# EAGLE library part LTC3615 (library PowerProducts)
Dual 4MHz, 3A Synchronous Step-Down DC/DC Converter
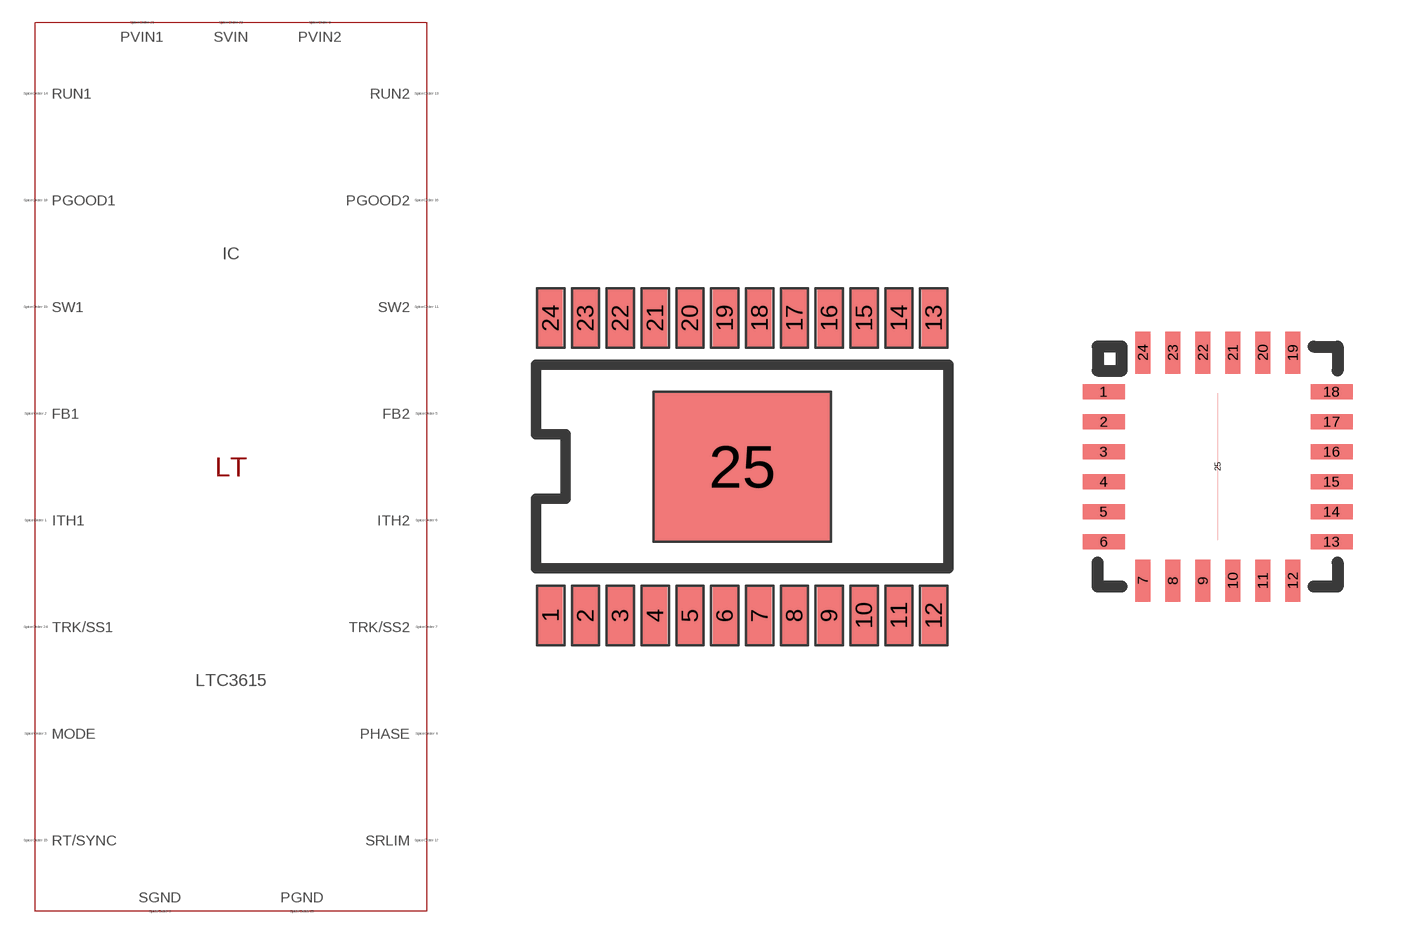
[diagram p266: symbol with the pads of TSSOP24AA(FE); footprints TSSOP24AA(FE), QFN24(UF)]

Designator prefix IC

## LTC3615 (SPICEMODEL: LTC3615.sub; SPICEPREFIX: X; VALUE2: LTC3615)  [TSSOP24AA(FE)]
1  PHASE  pas
2  FB2  pas
3  ITH2  pas
4  TRK/SS2  pas
5  SGND  pas
6  PVIN2  pas
7  PVIN2  pas
8  SW2  pas
9  SW2  pas
10  RUN2  pas
11  RUN1  pas
12  RT/SYNC  pas
13  PGOOD2  pas
14  SRLIM  pas
15  PGOOD1  pas
16  SW1  pas
17  SW1  pas
18  PVIN1  pas
19  PVIN1  pas
20  SVIN  pas
21  TRK/SS1  pas
22  ITH1  pas
23  FB1  pas
24  MODE  pas
25  PGND  pas

## LTC3615UF (SPICEMODEL: LTC3615.sub; SPICEPREFIX: X; VALUE2: LTC3615)  [QFN24(UF)]
1  ITH1  pas
2  FB1  pas
3  MODE  pas
4  PHASE  pas
5  FB2  pas
6  ITH2  pas
7  TRK/SS2  pas
8  SGND  pas
9  PVIN2  pas
10  PVIN2  pas
11  SW2  pas
12  SW2  pas
13  RUN2  pas
14  RUN1  pas
15  RT/SYNC  pas
16  PGOOD2  pas
17  SRLIM  pas
18  PGOOD1  pas
19  SW1  pas
20  SW1  pas
21  PVIN1  pas
22  PVIN1  pas
23  SVIN  pas
24  TRK/SS1  pas
25  PGND  pas

## Footprint TSSOP24AA(FE) (pad centres in mm)
Package generated from: TSSOP24AA(FE).asc (!PADS-POWERPCB-V9.3-BASIC! DESIGN DATABASE ASCII FILE 1.0) with :import-pads-powerpcb-v5.ulp Version 1.0.1 at 04.10.2012 14:11:40
smd 0.675 x 1.575: 1 -5.362,-4.162; 2 -4.388,-4.162; 3 -3.413,-4.162; 4 -2.438,-4.162; 5 -1.462,-4.162; 6 -0.487,-4.162; 7 0.487,-4.162; 8 1.462,-4.162; 9 2.438,-4.162; 10 3.413,-4.162; 11 4.388,-4.162; 12 5.362,-4.162; 13 5.362,4.162; 14 4.388,4.162; 15 3.413,4.162; 16 2.438,4.162; 17 1.462,4.162; 18 0.487,4.162; 19 -0.487,4.162; 20 -1.462,4.162; 21 -2.438,4.162; 22 -3.413,4.162; 23 -4.388,4.162; 24 -5.362,4.162
smd 4.875 x 4.11: 25 0,0

## Footprint QFN24(UF) (pad centres in mm)
Package generated from: QFN24(UF).asc (!PADS-POWERPCB-V5.0-BASIC! DESIGN DATABASE ASCII FILE 1.0) with :import-pads-powerpcb-v5.ulp Version 1.0.1 at 04.10.2012 14:11:24
smd 1.05 x 0.375: 1 -2.85,1.875; 2 -2.85,1.125; 3 -2.85,0.375; 4 -2.85,-0.375; 5 -2.85,-1.125; 6 -2.85,-1.875; 13 2.85,-1.875; 14 2.85,-1.125; 15 2.85,-0.375; 16 2.85,0.375; 17 2.85,1.125; 18 2.85,1.875
smd 0.375 x 1.05: 7 -1.875,-2.85; 8 -1.125,-2.85; 9 -0.375,-2.85; 10 0.375,-2.85; 11 1.125,-2.85; 12 1.875,-2.85; 19 1.875,2.85; 20 1.125,2.85; 21 0.375,2.85; 22 -0.375,2.85; 23 -1.125,2.85; 24 -1.875,2.85
smd 0 x 3.675: 25 0,0